# Altium integrated library Holtek Semiconductor 8-Bit OTP MCU.IntLib: 195 symbols (part 5 of 7)
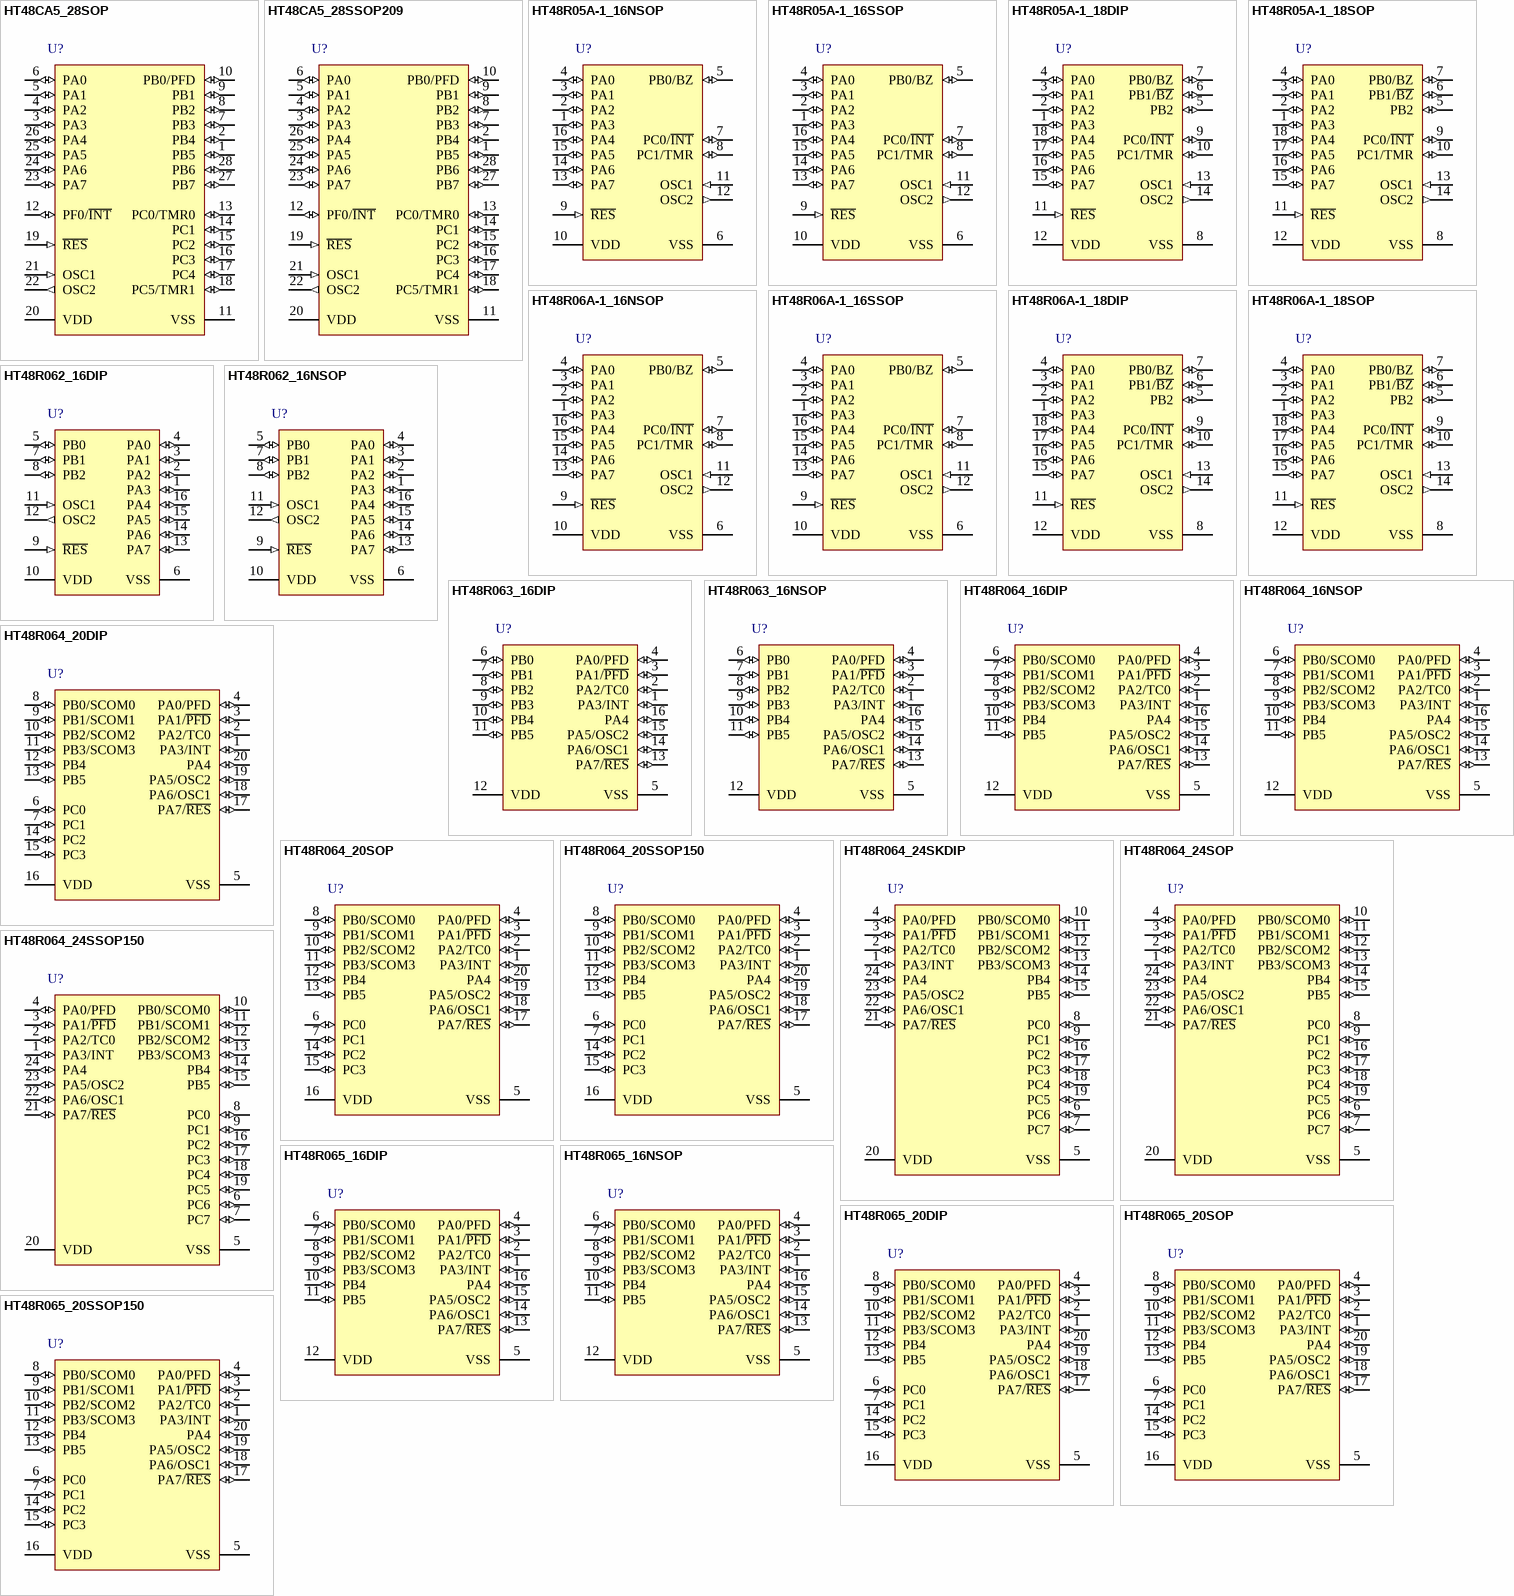
[diagram p16: symbols HT48CA5_28SOP to HT48R065_20SSOP150]

## HT48R064_16DIP
designator U?
General Purpose MCU, Enhanced I/O Type MCU, 2.2V-5.5V, 32kHz-12MHz, 1Kx14 Program Memory, 64x8 Data Memory, 22 I/O, 1 x 8-bit Timer, 16-pin DIP; I/O: 22; DatasheetVersion: rev1.3, Jun-2010; PackageVersion: 25/05/2010; PackageReference: 16DIP; PackageDescription: 16-Pin, Dual In-line Package, 300mil Width, Pitch 2.54 mm, Full Lead; Series: Enhanced I/O Type MCU; Operating Voltage: 2.2V-5.5V; Program Memory: 1Kx14; Data Memory: 64x8; Code_JEDEC: MS-001D; ComponentLink1Description: Manufacturer URL; ComponentLink1URL: http://www.holtek.com/; ComponentLink2Description: Datasheet; ComponentLink2URL: http://www.holtek.com.cn/pdf/uc/sim48R06xv130.pdf; ComponentLink3Description: Package Specification; ComponentLink3URL: http://www.holtek.com/english/literature/package.pdf
footprint 16DIP (DIP, 16-Leads, Row Spacing 7.62mm, Pitch 2.54mm, Body 21.1x6.6mm)
pins: 1 PA3/INT (io), 2 PA2/TC0 (io), 3 PA1/~{PFD} (io), 4 PA0/PFD (io), 5 VSS (power), 6 PB0/SCOM0 (io), 7 PB1/SCOM1 (io), 8 PB2/SCOM2 (io), 9 PB3/SCOM3 (io), 10 PB4 (io), 11 PB5 (io), 12 VDD (power), 13 PA7/~{RES} (io), 14 PA6/OSC1 (io), 15 PA5/OSC2 (io), 16 PA4 (io)

## HT48R064_16NSOP
designator U?
General Purpose MCU, Enhanced I/O Type MCU, 2.2V-5.5V, 32kHz-12MHz, 1Kx14 Program Memory, 64x8 Data Memory, 22 I/O, 1 x 8-bit Timer, 16-pin NSOP; I/O: 22; DatasheetVersion: rev1.3, Jun-2010; PackageVersion: 25/05/2010; PackageReference: 16NSOP; PackageDescription: 16-Pin Narrow Small Outline Package, 150mil Wide, 1.27 mm Pitch; Series: Enhanced I/O Type MCU; Operating Voltage: 2.2V-5.5V; Program Memory: 1Kx14; Data Memory: 64x8; ComponentLink1Description: Manufacturer URL; ComponentLink1URL: http://www.holtek.com/; ComponentLink2Description: Datasheet; ComponentLink2URL: http://www.holtek.com.cn/pdf/uc/sim48R06xv130.pdf; ComponentLink3Description: Package Specification; ComponentLink3URL: http://www.holtek.com/english/literature/package.pdf
footprint 16NSOP_N (SOIC, 16-Leads, Body 10.01x3.9mm, Pitch 1.27mm, IPC Medium Density)
footprint 16NSOP_L (SOIC, 16-Leads, Body 10.01x3.9mm, Pitch 1.27mm, IPC High Density)
footprint 16NSOP_M (SOIC, 16-Leads, Body 10.01x3.9mm, Pitch 1.27mm, IPC Low Density)
pins: 1 PA3/INT (io), 2 PA2/TC0 (io), 3 PA1/~{PFD} (io), 4 PA0/PFD (io), 5 VSS (power), 6 PB0/SCOM0 (io), 7 PB1/SCOM1 (io), 8 PB2/SCOM2 (io), 9 PB3/SCOM3 (io), 10 PB4 (io), 11 PB5 (io), 12 VDD (power), 13 PA7/~{RES} (io), 14 PA6/OSC1 (io), 15 PA5/OSC2 (io), 16 PA4 (io)

## HT48R064_20DIP
designator U?
General Purpose MCU, Enhanced I/O Type MCU, 2.2V-5.5V, 32kHz-12MHz, 1Kx14 Program Memory, 64x8 Data Memory, 22 I/O, 1 x 8-bit Timer, 20-pin DIP; I/O: 22; DatasheetVersion: rev1.3, Jun-2010; PackageVersion: 25/05/2010; PackageReference: 20DIP; PackageDescription: 20-Pin, Dual In-line Package, 300mil Width, Pitch 2.54 mm, Full Lead; Series: Enhanced I/O Type MCU; Operating Voltage: 2.2V-5.5V; Program Memory: 1Kx14; Data Memory: 64x8; Code_JEDEC: MO-095A; ComponentLink1Description: Manufacturer URL; ComponentLink1URL: http://www.holtek.com/; ComponentLink2Description: Datasheet; ComponentLink2URL: http://www.holtek.com.cn/pdf/uc/sim48R06xv130.pdf; ComponentLink3Description: Package Specification; ComponentLink3URL: http://www.holtek.com/english/literature/package.pdf
footprint 20DIP (DIP, 20-Leads, Row Spacing 7.62mm, Pitch 2.54mm, Body 24.5x7.2mm)
pins: 1 PA3/INT (io), 2 PA2/TC0 (io), 3 PA1/~{PFD} (io), 4 PA0/PFD (io), 5 VSS (power), 6 PC0 (io), 7 PC1 (io), 8 PB0/SCOM0 (io), 9 PB1/SCOM1 (io), 10 PB2/SCOM2 (io), 11 PB3/SCOM3 (io), 12 PB4 (io), 13 PB5 (io), 14 PC2 (io), 15 PC3 (io), 16 VDD (power), 17 PA7/~{RES} (io), 18 PA6/OSC1 (io), 19 PA5/OSC2 (io), 20 PA4 (io)

## HT48R064_20SOP
designator U?
General Purpose MCU, Enhanced I/O Type MCU, 2.2V-5.5V, 32kHz-12MHz, 1Kx14 Program Memory, 64x8 Data Memory, 22 I/O, 1 x 8-bit Timer, 20-pin SOP; I/O: 22; DatasheetVersion: rev1.3, Jun-2010; PackageVersion: 25/05/2010; PackageReference: 20SOP; PackageDescription: 20-Pin Small Outline Package, 300mil Wide, 1.27 mm Pitch; Series: Enhanced I/O Type MCU; Operating Voltage: 2.2V-5.5V; Program Memory: 1Kx14; Data Memory: 64x8; Code_JEDEC: MS-013; Code_IPC: SOIC127P1030-20; ComponentLink1Description: Manufacturer URL; ComponentLink1URL: http://www.holtek.com/; ComponentLink2Description: Datasheet; ComponentLink2URL: http://www.holtek.com.cn/pdf/uc/sim48R06xv130.pdf; ComponentLink3Description: Package Specification; ComponentLink3URL: http://www.holtek.com/english/literature/package.pdf
footprint 20SOP_N (SOIC, 20-Leads, Body 12.8x7.1mm, Pitch 1.27mm, IPC Medium Density)
footprint 20SOP_L (SOIC, 20-Leads, Body 12.8x7.1mm, Pitch 1.27mm, IPC High Density)
footprint 20SOP_M (SOIC, 20-Leads, Body 12.8x7.1mm, Pitch 1.27mm, IPC Low Density)
pins: 1 PA3/INT (io), 2 PA2/TC0 (io), 3 PA1/~{PFD} (io), 4 PA0/PFD (io), 5 VSS (power), 6 PC0 (io), 7 PC1 (io), 8 PB0/SCOM0 (io), 9 PB1/SCOM1 (io), 10 PB2/SCOM2 (io), 11 PB3/SCOM3 (io), 12 PB4 (io), 13 PB5 (io), 14 PC2 (io), 15 PC3 (io), 16 VDD (power), 17 PA7/~{RES} (io), 18 PA6/OSC1 (io), 19 PA5/OSC2 (io), 20 PA4 (io)

## HT48R064_20SSOP150
designator U?
General Purpose MCU, Enhanced I/O Type MCU, 2.2V-5.5V, 32kHz-12MHz, 1Kx14 Program Memory, 64x8 Data Memory, 22 I/O, 1 x 8-bit Timer, 20-pin SSOP; I/O: 22; DatasheetVersion: rev1.3, Jun-2010; PackageVersion: 25/05/2010; PackageReference: 20SSOP150; PackageDescription: 20-Pin Shrink Small Outline Package, 150mil Width, 0.64 mm Pitch; Series: Enhanced I/O Type MCU; Operating Voltage: 2.2V-5.5V; Program Memory: 1Kx14; Data Memory: 64x8; Code_IPC: SOP635P600-20; ComponentLink1Description: Manufacturer URL; ComponentLink1URL: http://www.holtek.com/; ComponentLink2Description: Datasheet; ComponentLink2URL: http://www.holtek.com.cn/pdf/uc/sim48R06xv130.pdf; ComponentLink3Description: Package Specification; ComponentLink3URL: http://www.holtek.com/english/literature/package.pdf
footprint 20SSOP150_N (SOP, 20-Leads, Body 8.7x3.9mm, Pitch 0.635mm, IPC Medium Density)
footprint 20SSOP150_L (SOP, 20-Leads, Body 8.7x3.9mm, Pitch 0.635mm, IPC High Density)
footprint 20SSOP150_M (SOP, 20-Leads, Body 8.7x3.9mm, Pitch 0.635mm, IPC Low Density)
pins: 1 PA3/INT (io), 2 PA2/TC0 (io), 3 PA1/~{PFD} (io), 4 PA0/PFD (io), 5 VSS (power), 6 PC0 (io), 7 PC1 (io), 8 PB0/SCOM0 (io), 9 PB1/SCOM1 (io), 10 PB2/SCOM2 (io), 11 PB3/SCOM3 (io), 12 PB4 (io), 13 PB5 (io), 14 PC2 (io), 15 PC3 (io), 16 VDD (power), 17 PA7/~{RES} (io), 18 PA6/OSC1 (io), 19 PA5/OSC2 (io), 20 PA4 (io)

## HT48R064_24SKDIP
designator U?
General Purpose MCU, Enhanced I/O Type MCU, 2.2V-5.5V, 32kHz-12MHz, 1Kx14 Program Memory, 64x8 Data Memory, 22 I/O, 1 x 8-bit Timer, 24-pin SKDIP; I/O: 22; DatasheetVersion: rev1.3, Jun-2010; PackageVersion: 25/05/2010; PackageReference: 24SKDIP; PackageDescription: 24-Pin, Skinny Dual In-line Package, 300mil Width, Pitch 2.54 mm, Full Lead (MS-001D); Series: Enhanced I/O Type MCU; Operating Voltage: 2.2V-5.5V; Program Memory: 1Kx14; Data Memory: 64x8; Code_JEDEC: MS-001; ComponentLink1Description: Manufacturer URL; ComponentLink1URL: http://www.holtek.com/; ComponentLink2Description: Datasheet; ComponentLink2URL: http://www.holtek.com.cn/pdf/uc/sim48R06xv130.pdf; ComponentLink3Description: Package Specification; ComponentLink3URL: http://www.holtek.com/english/literature/package.pdf
footprint 24SKDIP (DIP, 24-Leads, Row Spacing 7.62mm, Pitch 2.54mm, Body 31.9x6.6mm)
pins: 1 PA3/INT (io), 2 PA2/TC0 (io), 3 PA1/~{PFD} (io), 4 PA0/PFD (io), 5 VSS (power), 6 PC6 (io), 7 PC7 (io), 8 PC0 (io), 9 PC1 (io), 10 PB0/SCOM0 (io), 11 PB1/SCOM1 (io), 12 PB2/SCOM2 (io), 13 PB3/SCOM3 (io), 14 PB4 (io), 15 PB5 (io), 16 PC2 (io), 17 PC3 (io), 18 PC4 (io), 19 PC5 (io), 20 VDD (power), 21 PA7/~{RES} (io), 22 PA6/OSC1 (io), 23 PA5/OSC2 (io), 24 PA4 (io)

## HT48R064_24SOP
designator U?
General Purpose MCU, Enhanced I/O Type MCU, 2.2V-5.5V, 32kHz-12MHz, 1Kx14 Program Memory, 64x8 Data Memory, 22 I/O, 1 x 8-bit Timer, 24-pin SOP; I/O: 22; DatasheetVersion: rev1.3, Jun-2010; PackageVersion: 25/05/2010; PackageReference: 24SOP; PackageDescription: 24-Pin Small Outline Package, 300mil Wide, 1.27 mm Pitch; Series: Enhanced I/O Type MCU; Operating Voltage: 2.2V-5.5V; Program Memory: 1Kx14; Data Memory: 64x8; Code_JEDEC: MS-013; ComponentLink1Description: Manufacturer URL; ComponentLink1URL: http://www.holtek.com/; ComponentLink2Description: Datasheet; ComponentLink2URL: http://www.holtek.com.cn/pdf/uc/sim48R06xv130.pdf; ComponentLink3Description: Package Specification; ComponentLink3URL: http://www.holtek.com/english/literature/package.pdf
footprint 24SOP_N (SOIC, 24-Leads, Body 15.4x7.1mm, Pitch 1.27mm, IPC Medium Density)
footprint 24SOP_L (SOIC, 24-Leads, Body 15.4x7.1mm, Pitch 1.27mm, IPC High Density)
footprint 24SOP_M (SOIC, 24-Leads, Body 15.4x7.1mm, Pitch 1.27mm, IPC Low Density)
pins: 1 PA3/INT (io), 2 PA2/TC0 (io), 3 PA1/~{PFD} (io), 4 PA0/PFD (io), 5 VSS (power), 6 PC6 (io), 7 PC7 (io), 8 PC0 (io), 9 PC1 (io), 10 PB0/SCOM0 (io), 11 PB1/SCOM1 (io), 12 PB2/SCOM2 (io), 13 PB3/SCOM3 (io), 14 PB4 (io), 15 PB5 (io), 16 PC2 (io), 17 PC3 (io), 18 PC4 (io), 19 PC5 (io), 20 VDD (power), 21 PA7/~{RES} (io), 22 PA6/OSC1 (io), 23 PA5/OSC2 (io), 24 PA4 (io)

## HT48R064_24SSOP150
designator U?
General Purpose MCU, Enhanced I/O Type MCU, 2.2V-5.5V, 32kHz-12MHz, 1Kx14 Program Memory, 64x8 Data Memory, 22 I/O, 1 x 8-bit Timer, 24-pin SSOP; I/O: 22; DatasheetVersion: rev1.3, Jun-2010; PackageVersion: 25/05/2010; PackageReference: 24SSOP150; PackageDescription: 24-Pin Shrink Small Outline Package, 150mil Width, 0.64 mm Pitch; Series: Enhanced I/O Type MCU; Operating Voltage: 2.2V-5.5V; Program Memory: 1Kx14; Data Memory: 64x8; ComponentLink1Description: Manufacturer URL; ComponentLink1URL: http://www.holtek.com/; ComponentLink2Description: Datasheet; ComponentLink2URL: http://www.holtek.com.cn/pdf/uc/sim48R06xv130.pdf; ComponentLink3Description: Package Specification; ComponentLink3URL: http://www.holtek.com/english/literature/package.pdf
footprint 24SSOP150_N (SOP, 24-Leads, Body 8.7x3.9mm, Pitch 0.635mm, IPC Medium Density)
footprint 24SSOP150_L (SOP, 24-Leads, Body 8.7x3.9mm, Pitch 0.635mm, IPC High Density)
footprint 24SSOP150_M (SOP, 24-Leads, Body 8.7x3.9mm, Pitch 0.635mm, IPC Low Density)
pins: 1 PA3/INT (io), 2 PA2/TC0 (io), 3 PA1/~{PFD} (io), 4 PA0/PFD (io), 5 VSS (power), 6 PC6 (io), 7 PC7 (io), 8 PC0 (io), 9 PC1 (io), 10 PB0/SCOM0 (io), 11 PB1/SCOM1 (io), 12 PB2/SCOM2 (io), 13 PB3/SCOM3 (io), 14 PB4 (io), 15 PB5 (io), 16 PC2 (io), 17 PC3 (io), 18 PC4 (io), 19 PC5 (io), 20 VDD (power), 21 PA7/~{RES} (io), 22 PA6/OSC1 (io), 23 PA5/OSC2 (io), 24 PA4 (io)

## HT48R065_16DIP
designator U?
General Purpose MCU, Enhanced I/O Type MCU, 2.2V-5.5V, 32kHz-12MHz, 2Kx15 Program Memory, 96x8 Data Memory, 26 I/O, 1 x 8-bit Timer, 16-pin DIP; I/O: 26; DatasheetVersion: rev1.3, Jun-2010; PackageVersion: 25/05/2010; PackageReference: 16DIP; PackageDescription: 16-Pin, Dual In-line Package, 300mil Width, Pitch 2.54 mm, Full Lead; Series: Enhanced I/O Type MCU; Operating Voltage: 2.2V-5.5V; Program Memory: 2Kx15; Data Memory: 96x8; Code_JEDEC: MS-001D; ComponentLink1Description: Manufacturer URL; ComponentLink1URL: http://www.holtek.com/; ComponentLink2Description: Datasheet; ComponentLink2URL: http://www.holtek.com.cn/pdf/uc/sim48R06xv130.pdf; ComponentLink3Description: Package Specification; ComponentLink3URL: http://www.holtek.com/english/literature/package.pdf
footprint 16DIP (DIP, 16-Leads, Row Spacing 7.62mm, Pitch 2.54mm, Body 21.1x6.6mm)
pins: 1 PA3/INT (io), 2 PA2/TC0 (io), 3 PA1/~{PFD} (io), 4 PA0/PFD (io), 5 VSS (power), 6 PB0/SCOM0 (io), 7 PB1/SCOM1 (io), 8 PB2/SCOM2 (io), 9 PB3/SCOM3 (io), 10 PB4 (io), 11 PB5 (io), 12 VDD (power), 13 PA7/~{RES} (io), 14 PA6/OSC1 (io), 15 PA5/OSC2 (io), 16 PA4 (io)

## HT48R065_16NSOP
designator U?
General Purpose MCU, Enhanced I/O Type MCU, 2.2V-5.5V, 32kHz-12MHz, 2Kx15 Program Memory, 96x8 Data Memory, 26 I/O, 1 x 8-bit Timer, 16-pin NSOP; I/O: 26; DatasheetVersion: rev1.3, Jun-2010; PackageVersion: 25/05/2010; PackageReference: 16NSOP; PackageDescription: 16-Pin Narrow Small Outline Package, 150mil Wide, 1.27 mm Pitch; Series: Enhanced I/O Type MCU; Operating Voltage: 2.2V-5.5V; Program Memory: 2Kx15; Data Memory: 96x8; ComponentLink1Description: Manufacturer URL; ComponentLink1URL: http://www.holtek.com/; ComponentLink2Description: Datasheet; ComponentLink2URL: http://www.holtek.com.cn/pdf/uc/sim48R06xv130.pdf; ComponentLink3Description: Package Specification; ComponentLink3URL: http://www.holtek.com/english/literature/package.pdf
footprint 16NSOP_N (SOIC, 16-Leads, Body 10.01x3.9mm, Pitch 1.27mm, IPC Medium Density)
footprint 16NSOP_L (SOIC, 16-Leads, Body 10.01x3.9mm, Pitch 1.27mm, IPC High Density)
footprint 16NSOP_M (SOIC, 16-Leads, Body 10.01x3.9mm, Pitch 1.27mm, IPC Low Density)
pins: 1 PA3/INT (io), 2 PA2/TC0 (io), 3 PA1/~{PFD} (io), 4 PA0/PFD (io), 5 VSS (power), 6 PB0/SCOM0 (io), 7 PB1/SCOM1 (io), 8 PB2/SCOM2 (io), 9 PB3/SCOM3 (io), 10 PB4 (io), 11 PB5 (io), 12 VDD (power), 13 PA7/~{RES} (io), 14 PA6/OSC1 (io), 15 PA5/OSC2 (io), 16 PA4 (io)

## HT48R065_20DIP
designator U?
General Purpose MCU, Enhanced I/O Type MCU, 2.2V-5.5V, 32kHz-12MHz, 2Kx15 Program Memory, 96x8 Data Memory, 26 I/O, 1 x 8-bit Timer, 20-pin DIP; I/O: 26; DatasheetVersion: rev1.3, Jun-2010; PackageVersion: 25/05/2010; PackageReference: 20DIP; PackageDescription: 20-Pin, Dual In-line Package, 300mil Width, Pitch 2.54 mm, Full Lead; Series: Enhanced I/O Type MCU; Operating Voltage: 2.2V-5.5V; Program Memory: 2Kx15; Data Memory: 96x8; Code_JEDEC: MO-095A; ComponentLink1Description: Manufacturer URL; ComponentLink1URL: http://www.holtek.com/; ComponentLink2Description: Datasheet; ComponentLink2URL: http://www.holtek.com.cn/pdf/uc/sim48R06xv130.pdf; ComponentLink3Description: Package Specification; ComponentLink3URL: http://www.holtek.com/english/literature/package.pdf
footprint 20DIP (DIP, 20-Leads, Row Spacing 7.62mm, Pitch 2.54mm, Body 24.5x7.2mm)
pins: 1 PA3/INT (io), 2 PA2/TC0 (io), 3 PA1/~{PFD} (io), 4 PA0/PFD (io), 5 VSS (power), 6 PC0 (io), 7 PC1 (io), 8 PB0/SCOM0 (io), 9 PB1/SCOM1 (io), 10 PB2/SCOM2 (io), 11 PB3/SCOM3 (io), 12 PB4 (io), 13 PB5 (io), 14 PC2 (io), 15 PC3 (io), 16 VDD (power), 17 PA7/~{RES} (io), 18 PA6/OSC1 (io), 19 PA5/OSC2 (io), 20 PA4 (io)

## HT48R065_20SOP
designator U?
General Purpose MCU, Enhanced I/O Type MCU, 2.2V-5.5V, 32kHz-12MHz, 2Kx15 Program Memory, 96x8 Data Memory, 26 I/O, 1 x 8-bit Timer, 20-pin SOP; I/O: 26; DatasheetVersion: rev1.3, Jun-2010; PackageVersion: 25/05/2010; PackageReference: 20SOP; PackageDescription: 20-Pin Small Outline Package, 300mil Wide, 1.27 mm Pitch; Series: Enhanced I/O Type MCU; Operating Voltage: 2.2V-5.5V; Program Memory: 2Kx15; Data Memory: 96x8; Code_JEDEC: MS-013; Code_IPC: SOIC127P1030-20; ComponentLink1Description: Manufacturer URL; ComponentLink1URL: http://www.holtek.com/; ComponentLink2Description: Datasheet; ComponentLink2URL: http://www.holtek.com.cn/pdf/uc/sim48R06xv130.pdf; ComponentLink3Description: Package Specification; ComponentLink3URL: http://www.holtek.com/english/literature/package.pdf
footprint 20SOP_N (SOIC, 20-Leads, Body 12.8x7.1mm, Pitch 1.27mm, IPC Medium Density)
footprint 20SOP_L (SOIC, 20-Leads, Body 12.8x7.1mm, Pitch 1.27mm, IPC High Density)
footprint 20SOP_M (SOIC, 20-Leads, Body 12.8x7.1mm, Pitch 1.27mm, IPC Low Density)
pins: 1 PA3/INT (io), 2 PA2/TC0 (io), 3 PA1/~{PFD} (io), 4 PA0/PFD (io), 5 VSS (power), 6 PC0 (io), 7 PC1 (io), 8 PB0/SCOM0 (io), 9 PB1/SCOM1 (io), 10 PB2/SCOM2 (io), 11 PB3/SCOM3 (io), 12 PB4 (io), 13 PB5 (io), 14 PC2 (io), 15 PC3 (io), 16 VDD (power), 17 PA7/~{RES} (io), 18 PA6/OSC1 (io), 19 PA5/OSC2 (io), 20 PA4 (io)

## HT48R065_20SSOP150
designator U?
General Purpose MCU, Enhanced I/O Type MCU, 2.2V-5.5V, 32kHz-12MHz, 2Kx15 Program Memory, 96x8 Data Memory, 26 I/O, 1 x 8-bit Timer, 20-pin SSOP; I/O: 26; DatasheetVersion: rev1.3, Jun-2010; PackageVersion: 25/05/2010; PackageReference: 20SSOP150; PackageDescription: 20-Pin Shrink Small Outline Package, 150mil Width, 0.64 mm Pitch; Series: Enhanced I/O Type MCU; Operating Voltage: 2.2V-5.5V; Program Memory: 2Kx15; Data Memory: 96x8; Code_IPC: SOP635P600-20; ComponentLink1Description: Manufacturer URL; ComponentLink1URL: http://www.holtek.com/; ComponentLink2Description: Datasheet; ComponentLink2URL: http://www.holtek.com.cn/pdf/uc/sim48R06xv130.pdf; ComponentLink3Description: Package Specification; ComponentLink3URL: http://www.holtek.com/english/literature/package.pdf
footprint 20SSOP150_N (SOP, 20-Leads, Body 8.7x3.9mm, Pitch 0.635mm, IPC Medium Density)
footprint 20SSOP150_L (SOP, 20-Leads, Body 8.7x3.9mm, Pitch 0.635mm, IPC High Density)
footprint 20SSOP150_M (SOP, 20-Leads, Body 8.7x3.9mm, Pitch 0.635mm, IPC Low Density)
pins: 1 PA3/INT (io), 2 PA2/TC0 (io), 3 PA1/~{PFD} (io), 4 PA0/PFD (io), 5 VSS (power), 6 PC0 (io), 7 PC1 (io), 8 PB0/SCOM0 (io), 9 PB1/SCOM1 (io), 10 PB2/SCOM2 (io), 11 PB3/SCOM3 (io), 12 PB4 (io), 13 PB5 (io), 14 PC2 (io), 15 PC3 (io), 16 VDD (power), 17 PA7/~{RES} (io), 18 PA6/OSC1 (io), 19 PA5/OSC2 (io), 20 PA4 (io)

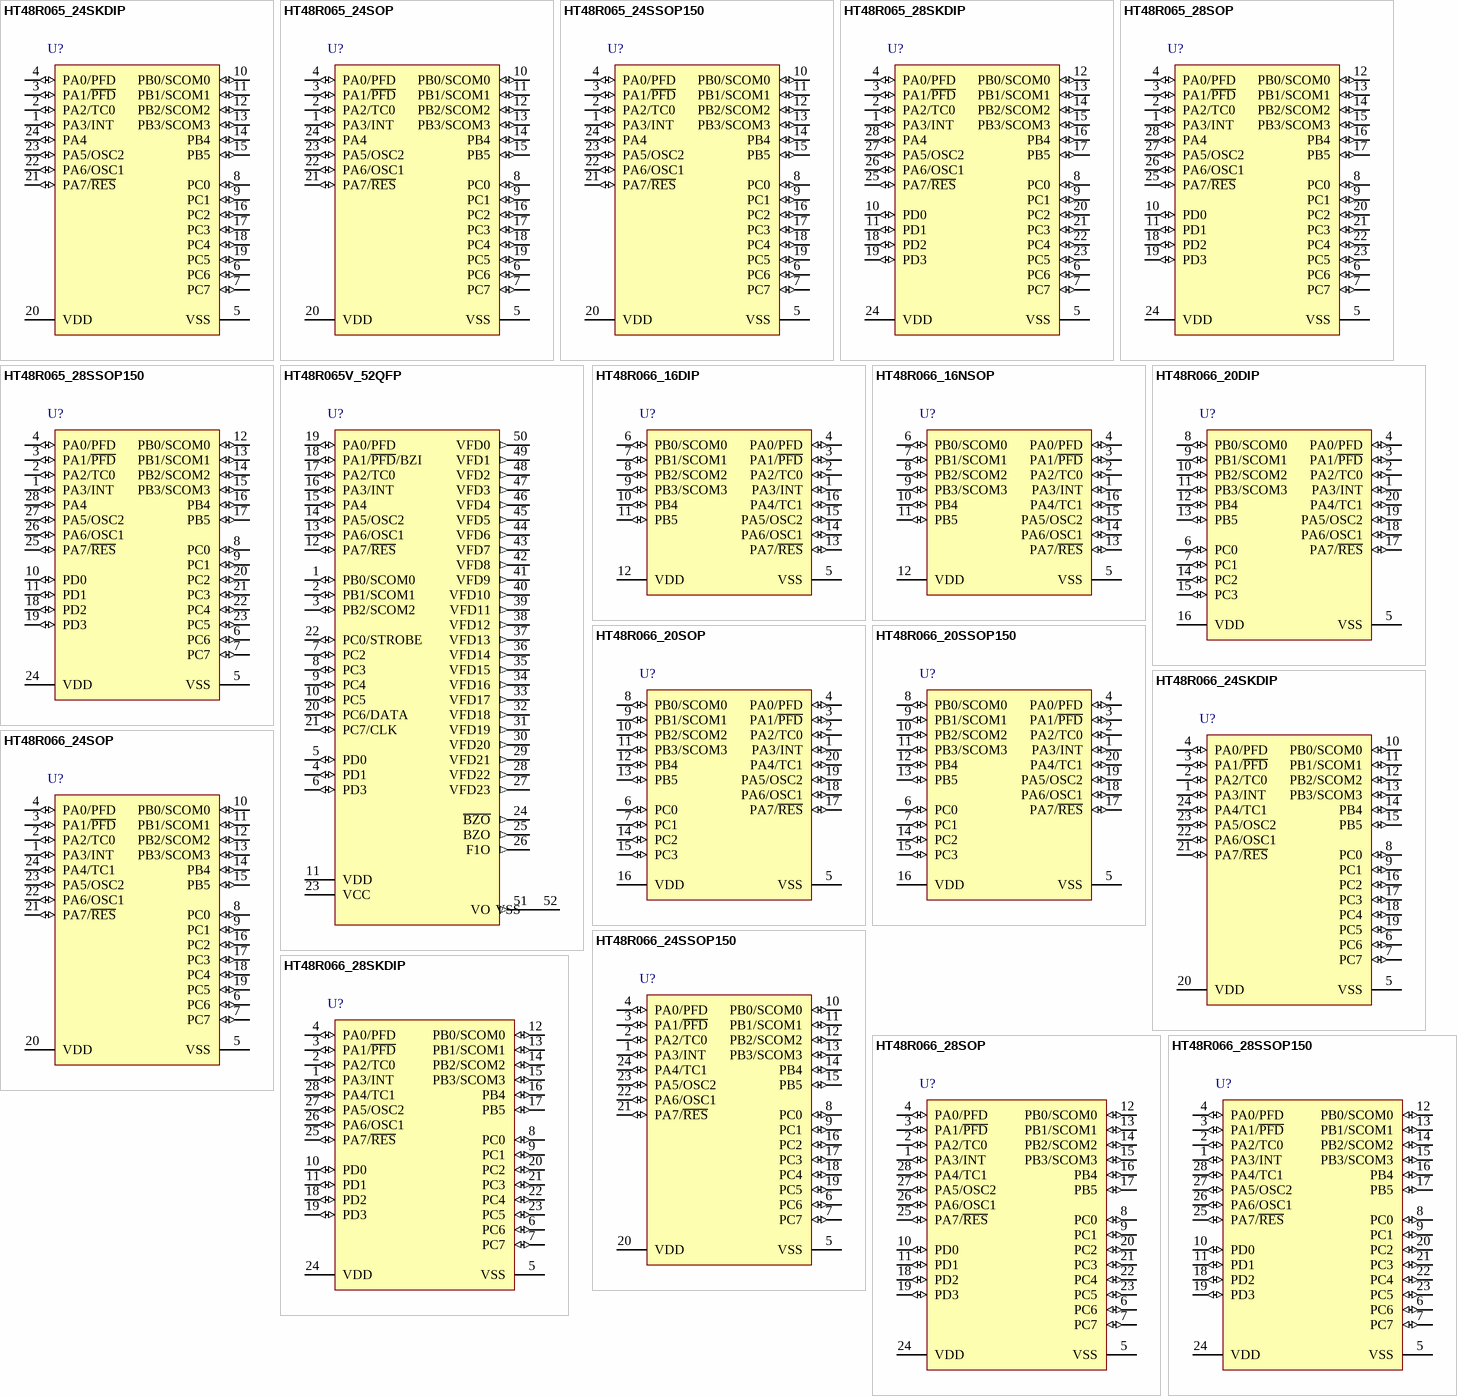
[diagram p9: symbols HT48R065_24SKDIP to HT48R066_28SSOP150]

## HT48R065_24SKDIP
designator U?
General Purpose MCU, Enhanced I/O Type MCU, 2.2V-5.5V, 32kHz-12MHz, 2Kx15 Program Memory, 96x8 Data Memory, 26 I/O, 1 x 8-bit Timer, 24-pin SKDIP; I/O: 26; DatasheetVersion: rev1.3, Jun-2010; PackageVersion: 25/05/2010; PackageReference: 24SKDIP; PackageDescription: 24-Pin, Skinny Dual In-line Package, 300mil Width, Pitch 2.54 mm, Full Lead (MS-001D); Series: Enhanced I/O Type MCU; Operating Voltage: 2.2V-5.5V; Program Memory: 2Kx15; Data Memory: 96x8; Code_JEDEC: MS-001; ComponentLink1Description: Manufacturer URL; ComponentLink1URL: http://www.holtek.com/; ComponentLink2Description: Datasheet; ComponentLink2URL: http://www.holtek.com.cn/pdf/uc/sim48R06xv130.pdf; ComponentLink3Description: Package Specification; ComponentLink3URL: http://www.holtek.com/english/literature/package.pdf
footprint 24SKDIP (DIP, 24-Leads, Row Spacing 7.62mm, Pitch 2.54mm, Body 31.9x6.6mm)
pins: 1 PA3/INT (io), 2 PA2/TC0 (io), 3 PA1/~{PFD} (io), 4 PA0/PFD (io), 5 VSS (power), 6 PC6 (io), 7 PC7 (io), 8 PC0 (io), 9 PC1 (io), 10 PB0/SCOM0 (io), 11 PB1/SCOM1 (io), 12 PB2/SCOM2 (io), 13 PB3/SCOM3 (io), 14 PB4 (io), 15 PB5 (io), 16 PC2 (io), 17 PC3 (io), 18 PC4 (io), 19 PC5 (io), 20 VDD (power), 21 PA7/~{RES} (io), 22 PA6/OSC1 (io), 23 PA5/OSC2 (io), 24 PA4 (io)

## HT48R065_24SOP
designator U?
General Purpose MCU, Enhanced I/O Type MCU, 2.2V-5.5V, 32kHz-12MHz, 2Kx15 Program Memory, 96x8 Data Memory, 26 I/O, 1 x 8-bit Timer, 24-pin SOP; I/O: 26; DatasheetVersion: rev1.3, Jun-2010; PackageVersion: 25/05/2010; PackageReference: 24SOP; PackageDescription: 24-Pin Small Outline Package, 300mil Wide, 1.27 mm Pitch; Series: Enhanced I/O Type MCU; Operating Voltage: 2.2V-5.5V; Program Memory: 2Kx15; Data Memory: 96x8; Code_JEDEC: MS-013; ComponentLink1Description: Manufacturer URL; ComponentLink1URL: http://www.holtek.com/; ComponentLink2Description: Datasheet; ComponentLink2URL: http://www.holtek.com.cn/pdf/uc/sim48R06xv130.pdf; ComponentLink3Description: Package Specification; ComponentLink3URL: http://www.holtek.com/english/literature/package.pdf
footprint 24SOP_N (SOIC, 24-Leads, Body 15.4x7.1mm, Pitch 1.27mm, IPC Medium Density)
footprint 24SOP_L (SOIC, 24-Leads, Body 15.4x7.1mm, Pitch 1.27mm, IPC High Density)
footprint 24SOP_M (SOIC, 24-Leads, Body 15.4x7.1mm, Pitch 1.27mm, IPC Low Density)
pins: 1 PA3/INT (io), 2 PA2/TC0 (io), 3 PA1/~{PFD} (io), 4 PA0/PFD (io), 5 VSS (power), 6 PC6 (io), 7 PC7 (io), 8 PC0 (io), 9 PC1 (io), 10 PB0/SCOM0 (io), 11 PB1/SCOM1 (io), 12 PB2/SCOM2 (io), 13 PB3/SCOM3 (io), 14 PB4 (io), 15 PB5 (io), 16 PC2 (io), 17 PC3 (io), 18 PC4 (io), 19 PC5 (io), 20 VDD (power), 21 PA7/~{RES} (io), 22 PA6/OSC1 (io), 23 PA5/OSC2 (io), 24 PA4 (io)

## HT48R065_24SSOP150
designator U?
General Purpose MCU, Enhanced I/O Type MCU, 2.2V-5.5V, 32kHz-12MHz, 2Kx15 Program Memory, 96x8 Data Memory, 26 I/O, 1 x 8-bit Timer, 24-pin SSOP; I/O: 26; DatasheetVersion: rev1.3, Jun-2010; PackageVersion: 25/05/2010; PackageReference: 24SSOP150; PackageDescription: 24-Pin Shrink Small Outline Package, 150mil Width, 0.64 mm Pitch; Series: Enhanced I/O Type MCU; Operating Voltage: 2.2V-5.5V; Program Memory: 2Kx15; Data Memory: 96x8; ComponentLink1Description: Manufacturer URL; ComponentLink1URL: http://www.holtek.com/; ComponentLink2Description: Datasheet; ComponentLink2URL: http://www.holtek.com.cn/pdf/uc/sim48R06xv130.pdf; ComponentLink3Description: Package Specification; ComponentLink3URL: http://www.holtek.com/english/literature/package.pdf
footprint 24SSOP150_N (SOP, 24-Leads, Body 8.7x3.9mm, Pitch 0.635mm, IPC Medium Density)
footprint 24SSOP150_L (SOP, 24-Leads, Body 8.7x3.9mm, Pitch 0.635mm, IPC High Density)
footprint 24SSOP150_M (SOP, 24-Leads, Body 8.7x3.9mm, Pitch 0.635mm, IPC Low Density)
pins: 1 PA3/INT (io), 2 PA2/TC0 (io), 3 PA1/~{PFD} (io), 4 PA0/PFD (io), 5 VSS (power), 6 PC6 (io), 7 PC7 (io), 8 PC0 (io), 9 PC1 (io), 10 PB0/SCOM0 (io), 11 PB1/SCOM1 (io), 12 PB2/SCOM2 (io), 13 PB3/SCOM3 (io), 14 PB4 (io), 15 PB5 (io), 16 PC2 (io), 17 PC3 (io), 18 PC4 (io), 19 PC5 (io), 20 VDD (power), 21 PA7/~{RES} (io), 22 PA6/OSC1 (io), 23 PA5/OSC2 (io), 24 PA4 (io)

## HT48R065_28SKDIP
designator U?
General Purpose MCU, Enhanced I/O Type MCU, 2.2V-5.5V, 32kHz-12MHz, 2Kx15 Program Memory, 96x8 Data Memory, 26 I/O, 1 x 8-bit Timer, 28-pin SKDIP; I/O: 26; DatasheetVersion: rev1.3, Jun-2010; PackageVersion: 25/05/2010; PackageReference: 28SKDIP; PackageDescription: 28-Pin, Skinny Dual In-line Package, 300mil Width, Pitch 2.54 mm; Series: Enhanced I/O Type MCU; Operating Voltage: 2.2V-5.5V; Program Memory: 2Kx15; Data Memory: 96x8; ComponentLink1Description: Manufacturer URL; ComponentLink1URL: http://www.holtek.com/; ComponentLink2Description: Datasheet; ComponentLink2URL: http://www.holtek.com.cn/pdf/uc/sim48R06xv130.pdf; ComponentLink3Description: Package Specification; ComponentLink3URL: http://www.holtek.com/english/literature/package.pdf
footprint 28SKDIP (DIP, 28-Leads, Row Spacing 7.62mm, Pitch 2.54mm, Body 35.2x7.3mm)
pins: 1 PA3/INT (io), 2 PA2/TC0 (io), 3 PA1/~{PFD} (io), 4 PA0/PFD (io), 5 VSS (power), 6 PC6 (io), 7 PC7 (io), 8 PC0 (io), 9 PC1 (io), 10 PD0 (io), 11 PD1 (io), 12 PB0/SCOM0 (io), 13 PB1/SCOM1 (io), 14 PB2/SCOM2 (io), 15 PB3/SCOM3 (io), 16 PB4 (io), 17 PB5 (io), 18 PD2 (io), 19 PD3 (io), 20 PC2 (io), 21 PC3 (io), 22 PC4 (io), 23 PC5 (io), 24 VDD (power), 25 PA7/~{RES} (io), 26 PA6/OSC1 (io), 27 PA5/OSC2 (io), 28 PA4 (io)

## HT48R065_28SOP
designator U?
General Purpose MCU, Enhanced I/O Type MCU, 2.2V-5.5V, 32kHz-12MHz, 2Kx15 Program Memory, 96x8 Data Memory, 26 I/O, 1 x 8-bit Timer, 28-pin SOP; I/O: 26; DatasheetVersion: rev1.3, Jun-2010; PackageVersion: 25/05/2010; PackageReference: 28SOP; PackageDescription: 28-Pin Small Outline Package, 300mil Wide, 1.27 mm Pitch; Series: Enhanced I/O Type MCU; Operating Voltage: 2.2V-5.5V; Program Memory: 2Kx15; Data Memory: 96x8; Code_JEDEC: MS-013; ComponentLink1Description: Manufacturer URL; ComponentLink1URL: http://www.holtek.com/; ComponentLink2Description: Datasheet; ComponentLink2URL: http://www.holtek.com.cn/pdf/uc/sim48R06xv130.pdf; ComponentLink3Description: Package Specification; ComponentLink3URL: http://www.holtek.com/english/literature/package.pdf
footprint 28SOP_N (SOIC, 28-Leads, Body 17.9x7.1mm, Pitch 1.27mm, IPC Medium Density)
footprint 28SOP_L (SOIC, 28-Leads, Body 17.9x7.1mm, Pitch 1.27mm, IPC High Density)
footprint 28SOP_M (SOIC, 28-Leads, Body 17.9x7.1mm, Pitch 1.27mm, IPC Low Density)
pins: 1 PA3/INT (io), 2 PA2/TC0 (io), 3 PA1/~{PFD} (io), 4 PA0/PFD (io), 5 VSS (power), 6 PC6 (io), 7 PC7 (io), 8 PC0 (io), 9 PC1 (io), 10 PD0 (io), 11 PD1 (io), 12 PB0/SCOM0 (io), 13 PB1/SCOM1 (io), 14 PB2/SCOM2 (io), 15 PB3/SCOM3 (io), 16 PB4 (io), 17 PB5 (io), 18 PD2 (io), 19 PD3 (io), 20 PC2 (io), 21 PC3 (io), 22 PC4 (io), 23 PC5 (io), 24 VDD (power), 25 PA7/~{RES} (io), 26 PA6/OSC1 (io), 27 PA5/OSC2 (io), 28 PA4 (io)

## HT48R065_28SSOP150
designator U?
General Purpose MCU, Enhanced I/O Type MCU, 2.2V-5.5V, 32kHz-12MHz, 2Kx15 Program Memory, 96x8 Data Memory, 26 I/O, 1 x 8-bit Timer, 28-pin SSOP; I/O: 26; DatasheetVersion: rev1.3, Jun-2010; PackageVersion: 25/05/2010; PackageReference: 28SSOP150; PackageDescription: 28-Pin Shrink Small Outline Package, 150mil Width, 0.64 mm Pitch; Series: Enhanced I/O Type MCU; Operating Voltage: 2.2V-5.5V; Program Memory: 2Kx15; Data Memory: 96x8; ComponentLink1Description: Manufacturer URL; ComponentLink1URL: http://www.holtek.com/; ComponentLink2Description: Datasheet; ComponentLink2URL: http://www.holtek.com.cn/pdf/uc/sim48R06xv130.pdf; ComponentLink3Description: Package Specification; ComponentLink3URL: http://www.holtek.com/english/literature/package.pdf
footprint 28SSOP150_N (SOP, 28-Leads, Body 9.9x3.9mm, Pitch 0.635mm, IPC Medium Density)
footprint 28SSOP150_L (SOP, 28-Leads, Body 9.9x3.9mm, Pitch 0.635mm, IPC High Density)
footprint 28SSOP150_M (SOP, 28-Leads, Body 9.9x3.9mm, Pitch 0.635mm, IPC Low Density)
pins: 1 PA3/INT (io), 2 PA2/TC0 (io), 3 PA1/~{PFD} (io), 4 PA0/PFD (io), 5 VSS (power), 6 PC6 (io), 7 PC7 (io), 8 PC0 (io), 9 PC1 (io), 10 PD0 (io), 11 PD1 (io), 12 PB0/SCOM0 (io), 13 PB1/SCOM1 (io), 14 PB2/SCOM2 (io), 15 PB3/SCOM3 (io), 16 PB4 (io), 17 PB5 (io), 18 PD2 (io), 19 PD3 (io), 20 PC2 (io), 21 PC3 (io), 22 PC4 (io), 23 PC5 (io), 24 VDD (power), 25 PA7/~{RES} (io), 26 PA6/OSC1 (io), 27 PA5/OSC2 (io), 28 PA4 (io)

## HT48R065V_52QFP
designator U?
Display MCU, 24V VFD MCU, 12V-24V, 400kHz-12MHz, 2Kx15 Program Memory, 96x8 Data Memory, 17 I/O, 1 x 8-bit Timer, 52-pin QFP; I/O: 17; DatasheetVersion: rev1.0, Oct-2009; PackageVersion: 25/05/2010; PackageReference: 52QFP; PackageDescription: 52-Pin Quad Flat Pack, 14 x 14 mm Body, 1 mm Pitch; Series: 24V VFD MCU; Operating Voltage: 12V-24V; Program Memory: 2Kx15; Data Memory: 96x8; ComponentLink1Description: Manufacturer URL; ComponentLink1URL: http://www.holtek.com/; ComponentLink2Description: Datasheet; ComponentLink2URL: http://www.holtek.com.cn/pdf/uc/sim48r065vv100.pdf; ComponentLink3Description: Package Specification; ComponentLink3URL: http://www.holtek.com/english/literature/package.pdf
footprint 52QFP_N (QFP, 52-Leads, Body 14x14mm, Pitch 1mm, IPC Medium Density)
footprint 52QFP_L (QFP, 52-Leads, Body 14x14mm, Pitch 1mm, IPC High Density)
footprint 52QFP_M (QFP, 52-Leads, Body 14x14mm, Pitch 1mm, IPC Low Density)
pins: 1 PB0/SCOM0 (io), 2 PB1/SCOM1 (io), 3 PB2/SCOM2 (io), 4 PD1 (io), 5 PD0 (io), 6 PD3 (io), 7 PC2 (io), 8 PC3 (io), 9 PC4 (io), 10 PC5 (io), 11 VDD (power), 12 PA7/~{RES} (io), 13 PA6/OSC1 (io), 14 PA5/OSC2 (io), 15 PA4 (io), 16 PA3/INT (io), 17 PA2/TC0 (io), 18 PA1/~{PFD}/BZI (io), 19 PA0/PFD (io), 20 PC6/DATA (io), 21 PC7/CLK (io), 22 PC0/STROBE (io), 23 VCC (power), 24 ~{BZO} (out), 25 BZO (out), 26 F1O (out), 27 VFD23 (out), 28 VFD22 (out), 29 VFD21 (out), 30 VFD20 (out), 31 VFD19 (out), 32 VFD18 (out), 33 VFD17 (out), 34 VFD16 (out), 35 VFD15 (out), 36 VFD14 (out), 37 VFD13 (out), 38 VFD12 (out), 39 VFD11 (out), 40 VFD10 (out), 41 VFD9 (out), 42 VFD8 (out), 43 VFD7 (out), 44 VFD6 (out), 45 VFD5 (out), 46 VFD4 (out), 47 VFD3 (out), 48 VFD2 (out), 49 VFD1 (out), 50 VFD0 (out), 51 VO (out), 52 VSS (power)

## HT48R066_16DIP
designator U?
General Purpose MCU, Enhanced I/O Type MCU, 2.2V-5.5V, 32kHz-12MHz, 4Kx15 Program Memory, 128x8 Data Memory, 26 I/O, 2 x 8-bit Timer, 16-pin DIP; I/O: 26; DatasheetVersion: rev1.3, Jun-2010; PackageVersion: 25/05/2010; PackageReference: 16DIP; PackageDescription: 16-Pin, Dual In-line Package, 300mil Width, Pitch 2.54 mm, Full Lead; Series: Enhanced I/O Type MCU; Operating Voltage: 2.2V-5.5V; Program Memory: 4Kx15; Data Memory: 128x8; Code_JEDEC: MS-001D; ComponentLink1Description: Manufacturer URL; ComponentLink1URL: http://www.holtek.com/; ComponentLink2Description: Datasheet; ComponentLink2URL: http://www.holtek.com.cn/pdf/uc/sim48R06xv130.pdf; ComponentLink3Description: Package Specification; ComponentLink3URL: http://www.holtek.com/english/literature/package.pdf
footprint 16DIP (DIP, 16-Leads, Row Spacing 7.62mm, Pitch 2.54mm, Body 21.1x6.6mm)
pins: 1 PA3/INT (io), 2 PA2/TC0 (io), 3 PA1/~{PFD} (io), 4 PA0/PFD (io), 5 VSS (power), 6 PB0/SCOM0 (io), 7 PB1/SCOM1 (io), 8 PB2/SCOM2 (io), 9 PB3/SCOM3 (io), 10 PB4 (io), 11 PB5 (io), 12 VDD (power), 13 PA7/~{RES} (io), 14 PA6/OSC1 (io), 15 PA5/OSC2 (io), 16 PA4/TC1 (io)

## HT48R066_16NSOP
designator U?
General Purpose MCU, Enhanced I/O Type MCU, 2.2V-5.5V, 32kHz-12MHz, 4Kx15 Program Memory, 128x8 Data Memory, 26 I/O, 2 x 8-bit Timer, 16-pin NSOP; I/O: 26; DatasheetVersion: rev1.3, Jun-2010; PackageVersion: 25/05/2010; PackageReference: 16NSOP; PackageDescription: 16-Pin Narrow Small Outline Package, 150mil Wide, 1.27 mm Pitch; Series: Enhanced I/O Type MCU; Operating Voltage: 2.2V-5.5V; Program Memory: 4Kx15; Data Memory: 128x8; ComponentLink1Description: Manufacturer URL; ComponentLink1URL: http://www.holtek.com/; ComponentLink2Description: Datasheet; ComponentLink2URL: http://www.holtek.com.cn/pdf/uc/sim48R06xv130.pdf; ComponentLink3Description: Package Specification; ComponentLink3URL: http://www.holtek.com/english/literature/package.pdf
footprint 16NSOP_N (SOIC, 16-Leads, Body 10.01x3.9mm, Pitch 1.27mm, IPC Medium Density)
footprint 16NSOP_L (SOIC, 16-Leads, Body 10.01x3.9mm, Pitch 1.27mm, IPC High Density)
footprint 16NSOP_M (SOIC, 16-Leads, Body 10.01x3.9mm, Pitch 1.27mm, IPC Low Density)
pins: 1 PA3/INT (io), 2 PA2/TC0 (io), 3 PA1/~{PFD} (io), 4 PA0/PFD (io), 5 VSS (power), 6 PB0/SCOM0 (io), 7 PB1/SCOM1 (io), 8 PB2/SCOM2 (io), 9 PB3/SCOM3 (io), 10 PB4 (io), 11 PB5 (io), 12 VDD (power), 13 PA7/~{RES} (io), 14 PA6/OSC1 (io), 15 PA5/OSC2 (io), 16 PA4/TC1 (io)

## HT48R066_20DIP
designator U?
General Purpose MCU, Enhanced I/O Type MCU, 2.2V-5.5V, 32kHz-12MHz, 4Kx15 Program Memory, 128x8 Data Memory, 26 I/O, 2 x 8-bit Timer, 20-pin DIP; I/O: 26; DatasheetVersion: rev1.3, Jun-2010; PackageVersion: 25/05/2010; PackageReference: 20DIP; PackageDescription: 20-Pin, Dual In-line Package, 300mil Width, Pitch 2.54 mm, Full Lead; Series: Enhanced I/O Type MCU; Operating Voltage: 2.2V-5.5V; Program Memory: 4Kx15; Data Memory: 128x8; Code_JEDEC: MO-095A; ComponentLink1Description: Manufacturer URL; ComponentLink1URL: http://www.holtek.com/; ComponentLink2Description: Datasheet; ComponentLink2URL: http://www.holtek.com.cn/pdf/uc/sim48R06xv130.pdf; ComponentLink3Description: Package Specification; ComponentLink3URL: http://www.holtek.com/english/literature/package.pdf
footprint 20DIP (DIP, 20-Leads, Row Spacing 7.62mm, Pitch 2.54mm, Body 24.5x7.2mm)
pins: 1 PA3/INT (io), 2 PA2/TC0 (io), 3 PA1/~{PFD} (io), 4 PA0/PFD (io), 5 VSS (power), 6 PC0 (io), 7 PC1 (io), 8 PB0/SCOM0 (io), 9 PB1/SCOM1 (io), 10 PB2/SCOM2 (io), 11 PB3/SCOM3 (io), 12 PB4 (io), 13 PB5 (io), 14 PC2 (io), 15 PC3 (io), 16 VDD (power), 17 PA7/~{RES} (io), 18 PA6/OSC1 (io), 19 PA5/OSC2 (io), 20 PA4/TC1 (io)

## HT48R066_20SOP
designator U?
General Purpose MCU, Enhanced I/O Type MCU, 2.2V-5.5V, 32kHz-12MHz, 4Kx15 Program Memory, 128x8 Data Memory, 26 I/O, 2 x 8-bit Timer, 20-pin SOP; I/O: 26; DatasheetVersion: rev1.3, Jun-2010; PackageVersion: 25/05/2010; PackageReference: 20SOP; PackageDescription: 20-Pin Small Outline Package, 300mil Wide, 1.27 mm Pitch; Series: Enhanced I/O Type MCU; Operating Voltage: 2.2V-5.5V; Program Memory: 4Kx15; Data Memory: 128x8; Code_JEDEC: MS-013; Code_IPC: SOIC127P1030-20; ComponentLink1Description: Manufacturer URL; ComponentLink1URL: http://www.holtek.com/; ComponentLink2Description: Datasheet; ComponentLink2URL: http://www.holtek.com.cn/pdf/uc/sim48R06xv130.pdf; ComponentLink3Description: Package Specification; ComponentLink3URL: http://www.holtek.com/english/literature/package.pdf
footprint 20SOP_N (SOIC, 20-Leads, Body 12.8x7.1mm, Pitch 1.27mm, IPC Medium Density)
footprint 20SOP_L (SOIC, 20-Leads, Body 12.8x7.1mm, Pitch 1.27mm, IPC High Density)
footprint 20SOP_M (SOIC, 20-Leads, Body 12.8x7.1mm, Pitch 1.27mm, IPC Low Density)
pins: 1 PA3/INT (io), 2 PA2/TC0 (io), 3 PA1/~{PFD} (io), 4 PA0/PFD (io), 5 VSS (power), 6 PC0 (io), 7 PC1 (io), 8 PB0/SCOM0 (io), 9 PB1/SCOM1 (io), 10 PB2/SCOM2 (io), 11 PB3/SCOM3 (io), 12 PB4 (io), 13 PB5 (io), 14 PC2 (io), 15 PC3 (io), 16 VDD (power), 17 PA7/~{RES} (io), 18 PA6/OSC1 (io), 19 PA5/OSC2 (io), 20 PA4/TC1 (io)

## HT48R066_20SSOP150
designator U?
General Purpose MCU, Enhanced I/O Type MCU, 2.2V-5.5V, 32kHz-12MHz, 4Kx15 Program Memory, 128x8 Data Memory, 26 I/O, 2 x 8-bit Timer, 20-pin SSOP; I/O: 26; DatasheetVersion: rev1.3, Jun-2010; PackageVersion: 25/05/2010; PackageReference: 20SSOP150; PackageDescription: 20-Pin Shrink Small Outline Package, 150mil Width, 0.64 mm Pitch; Series: Enhanced I/O Type MCU; Operating Voltage: 2.2V-5.5V; Program Memory: 4Kx15; Data Memory: 128x8; Code_IPC: SOP635P600-20; ComponentLink1Description: Manufacturer URL; ComponentLink1URL: http://www.holtek.com/; ComponentLink2Description: Datasheet; ComponentLink2URL: http://www.holtek.com.cn/pdf/uc/sim48R06xv130.pdf; ComponentLink3Description: Package Specification; ComponentLink3URL: http://www.holtek.com/english/literature/package.pdf
footprint 20SSOP150_N (SOP, 20-Leads, Body 8.7x3.9mm, Pitch 0.635mm, IPC Medium Density)
footprint 20SSOP150_L (SOP, 20-Leads, Body 8.7x3.9mm, Pitch 0.635mm, IPC High Density)
footprint 20SSOP150_M (SOP, 20-Leads, Body 8.7x3.9mm, Pitch 0.635mm, IPC Low Density)
pins: 1 PA3/INT (io), 2 PA2/TC0 (io), 3 PA1/~{PFD} (io), 4 PA0/PFD (io), 5 VSS (power), 6 PC0 (io), 7 PC1 (io), 8 PB0/SCOM0 (io), 9 PB1/SCOM1 (io), 10 PB2/SCOM2 (io), 11 PB3/SCOM3 (io), 12 PB4 (io), 13 PB5 (io), 14 PC2 (io), 15 PC3 (io), 16 VDD (power), 17 PA7/~{RES} (io), 18 PA6/OSC1 (io), 19 PA5/OSC2 (io), 20 PA4/TC1 (io)

## HT48R066_24SKDIP
designator U?
General Purpose MCU, Enhanced I/O Type MCU, 2.2V-5.5V, 32kHz-12MHz, 4Kx15 Program Memory, 128x8 Data Memory, 26 I/O, 2 x 8-bit Timer, 24-pin SKDIP; I/O: 26; DatasheetVersion: rev1.3, Jun-2010; PackageVersion: 25/05/2010; PackageReference: 24SKDIP; PackageDescription: 24-Pin, Skinny Dual In-line Package, 300mil Width, Pitch 2.54 mm, Full Lead (MS-001D); Series: Enhanced I/O Type MCU; Operating Voltage: 2.2V-5.5V; Program Memory: 4Kx15; Data Memory: 128x8; Code_JEDEC: MS-001; ComponentLink1Description: Manufacturer URL; ComponentLink1URL: http://www.holtek.com/; ComponentLink2Description: Datasheet; ComponentLink2URL: http://www.holtek.com.cn/pdf/uc/sim48R06xv130.pdf; ComponentLink3Description: Package Specification; ComponentLink3URL: http://www.holtek.com/english/literature/package.pdf
footprint 24SKDIP (DIP, 24-Leads, Row Spacing 7.62mm, Pitch 2.54mm, Body 31.9x6.6mm)
pins: 1 PA3/INT (io), 2 PA2/TC0 (io), 3 PA1/~{PFD} (io), 4 PA0/PFD (io), 5 VSS (power), 6 PC6 (io), 7 PC7 (io), 8 PC0 (io), 9 PC1 (io), 10 PB0/SCOM0 (io), 11 PB1/SCOM1 (io), 12 PB2/SCOM2 (io), 13 PB3/SCOM3 (io), 14 PB4 (io), 15 PB5 (io), 16 PC2 (io), 17 PC3 (io), 18 PC4 (io), 19 PC5 (io), 20 VDD (power), 21 PA7/~{RES} (io), 22 PA6/OSC1 (io), 23 PA5/OSC2 (io), 24 PA4/TC1 (io)

## HT48R066_24SOP
designator U?
General Purpose MCU, Enhanced I/O Type MCU, 2.2V-5.5V, 32kHz-12MHz, 4Kx15 Program Memory, 128x8 Data Memory, 26 I/O, 2 x 8-bit Timer, 24-pin SOP; I/O: 26; DatasheetVersion: rev1.3, Jun-2010; PackageVersion: 25/05/2010; PackageReference: 24SOP; PackageDescription: 24-Pin Small Outline Package, 300mil Wide, 1.27 mm Pitch; Series: Enhanced I/O Type MCU; Operating Voltage: 2.2V-5.5V; Program Memory: 4Kx15; Data Memory: 128x8; Code_JEDEC: MS-013; ComponentLink1Description: Manufacturer URL; ComponentLink1URL: http://www.holtek.com/; ComponentLink2Description: Datasheet; ComponentLink2URL: http://www.holtek.com.cn/pdf/uc/sim48R06xv130.pdf; ComponentLink3Description: Package Specification; ComponentLink3URL: http://www.holtek.com/english/literature/package.pdf
footprint 24SOP_N (SOIC, 24-Leads, Body 15.4x7.1mm, Pitch 1.27mm, IPC Medium Density)
footprint 24SOP_L (SOIC, 24-Leads, Body 15.4x7.1mm, Pitch 1.27mm, IPC High Density)
footprint 24SOP_M (SOIC, 24-Leads, Body 15.4x7.1mm, Pitch 1.27mm, IPC Low Density)
pins: 1 PA3/INT (io), 2 PA2/TC0 (io), 3 PA1/~{PFD} (io), 4 PA0/PFD (io), 5 VSS (power), 6 PC6 (io), 7 PC7 (io), 8 PC0 (io), 9 PC1 (io), 10 PB0/SCOM0 (io), 11 PB1/SCOM1 (io), 12 PB2/SCOM2 (io), 13 PB3/SCOM3 (io), 14 PB4 (io), 15 PB5 (io), 16 PC2 (io), 17 PC3 (io), 18 PC4 (io), 19 PC5 (io), 20 VDD (power), 21 PA7/~{RES} (io), 22 PA6/OSC1 (io), 23 PA5/OSC2 (io), 24 PA4/TC1 (io)

## HT48R066_24SSOP150
designator U?
General Purpose MCU, Enhanced I/O Type MCU, 2.2V-5.5V, 32kHz-12MHz, 4Kx15 Program Memory, 128x8 Data Memory, 26 I/O, 2 x 8-bit Timer, 24-pin SSOP; I/O: 26; DatasheetVersion: rev1.3, Jun-2010; PackageVersion: 25/05/2010; PackageReference: 24SSOP150; PackageDescription: 24-Pin Shrink Small Outline Package, 150mil Width, 0.64 mm Pitch; Series: Enhanced I/O Type MCU; Operating Voltage: 2.2V-5.5V; Program Memory: 4Kx15; Data Memory: 128x8; ComponentLink1Description: Manufacturer URL; ComponentLink1URL: http://www.holtek.com/; ComponentLink2Description: Datasheet; ComponentLink2URL: http://www.holtek.com.cn/pdf/uc/sim48R06xv130.pdf; ComponentLink3Description: Package Specification; ComponentLink3URL: http://www.holtek.com/english/literature/package.pdf
footprint 24SSOP150_N (SOP, 24-Leads, Body 8.7x3.9mm, Pitch 0.635mm, IPC Medium Density)
footprint 24SSOP150_L (SOP, 24-Leads, Body 8.7x3.9mm, Pitch 0.635mm, IPC High Density)
footprint 24SSOP150_M (SOP, 24-Leads, Body 8.7x3.9mm, Pitch 0.635mm, IPC Low Density)
pins: 1 PA3/INT (io), 2 PA2/TC0 (io), 3 PA1/~{PFD} (io), 4 PA0/PFD (io), 5 VSS (power), 6 PC6 (io), 7 PC7 (io), 8 PC0 (io), 9 PC1 (io), 10 PB0/SCOM0 (io), 11 PB1/SCOM1 (io), 12 PB2/SCOM2 (io), 13 PB3/SCOM3 (io), 14 PB4 (io), 15 PB5 (io), 16 PC2 (io), 17 PC3 (io), 18 PC4 (io), 19 PC5 (io), 20 VDD (power), 21 PA7/~{RES} (io), 22 PA6/OSC1 (io), 23 PA5/OSC2 (io), 24 PA4/TC1 (io)

## HT48R066_28SKDIP
designator U?
General Purpose MCU, Enhanced I/O Type MCU, 2.2V-5.5V, 32kHz-12MHz, 4Kx15 Program Memory, 128x8 Data Memory, 26 I/O, 2 x 8-bit Timer, 28-pin SKDIP; I/O: 26; DatasheetVersion: rev1.3, Jun-2010; PackageVersion: 25/05/2010; PackageReference: 28SKDIP; PackageDescription: 28-Pin, Skinny Dual In-line Package, 300mil Width, Pitch 2.54 mm; Series: Enhanced I/O Type MCU; Operating Voltage: 2.2V-5.5V; Program Memory: 4Kx15; Data Memory: 128x8; ComponentLink1Description: Manufacturer URL; ComponentLink1URL: http://www.holtek.com/; ComponentLink2Description: Datasheet; ComponentLink2URL: http://www.holtek.com.cn/pdf/uc/sim48R06xv130.pdf; ComponentLink3Description: Package Specification; ComponentLink3URL: http://www.holtek.com/english/literature/package.pdf
footprint 28SKDIP (DIP, 28-Leads, Row Spacing 7.62mm, Pitch 2.54mm, Body 35.2x7.3mm)
pins: 1 PA3/INT (io), 2 PA2/TC0 (io), 3 PA1/~{PFD} (io), 4 PA0/PFD (io), 5 VSS (power), 6 PC6 (io), 7 PC7 (io), 8 PC0 (io), 9 PC1 (io), 10 PD0 (io), 11 PD1 (io), 12 PB0/SCOM0 (io), 13 PB1/SCOM1 (io), 14 PB2/SCOM2 (io), 15 PB3/SCOM3 (io), 16 PB4 (io), 17 PB5 (io), 18 PD2 (io), 19 PD3 (io), 20 PC2 (io), 21 PC3 (io), 22 PC4 (io), 23 PC5 (io), 24 VDD (power), 25 PA7/~{RES} (io), 26 PA6/OSC1 (io), 27 PA5/OSC2 (io), 28 PA4/TC1 (io)

## HT48R066_28SOP
designator U?
General Purpose MCU, Enhanced I/O Type MCU, 2.2V-5.5V, 32kHz-12MHz, 4Kx15 Program Memory, 128x8 Data Memory, 26 I/O, 2 x 8-bit Timer, 28-pin SOP; I/O: 26; DatasheetVersion: rev1.3, Jun-2010; PackageVersion: 25/05/2010; PackageReference: 28SOP; PackageDescription: 28-Pin Small Outline Package, 300mil Wide, 1.27 mm Pitch; Series: Enhanced I/O Type MCU; Operating Voltage: 2.2V-5.5V; Program Memory: 4Kx15; Data Memory: 128x8; Code_JEDEC: MS-013; ComponentLink1Description: Manufacturer URL; ComponentLink1URL: http://www.holtek.com/; ComponentLink2Description: Datasheet; ComponentLink2URL: http://www.holtek.com.cn/pdf/uc/sim48R06xv130.pdf; ComponentLink3Description: Package Specification; ComponentLink3URL: http://www.holtek.com/english/literature/package.pdf
footprint 28SOP_N (SOIC, 28-Leads, Body 17.9x7.1mm, Pitch 1.27mm, IPC Medium Density)
footprint 28SOP_L (SOIC, 28-Leads, Body 17.9x7.1mm, Pitch 1.27mm, IPC High Density)
footprint 28SOP_M (SOIC, 28-Leads, Body 17.9x7.1mm, Pitch 1.27mm, IPC Low Density)
pins: 1 PA3/INT (io), 2 PA2/TC0 (io), 3 PA1/~{PFD} (io), 4 PA0/PFD (io), 5 VSS (power), 6 PC6 (io), 7 PC7 (io), 8 PC0 (io), 9 PC1 (io), 10 PD0 (io), 11 PD1 (io), 12 PB0/SCOM0 (io), 13 PB1/SCOM1 (io), 14 PB2/SCOM2 (io), 15 PB3/SCOM3 (io), 16 PB4 (io), 17 PB5 (io), 18 PD2 (io), 19 PD3 (io), 20 PC2 (io), 21 PC3 (io), 22 PC4 (io), 23 PC5 (io), 24 VDD (power), 25 PA7/~{RES} (io), 26 PA6/OSC1 (io), 27 PA5/OSC2 (io), 28 PA4/TC1 (io)

## HT48R066_28SSOP150
designator U?
General Purpose MCU, Enhanced I/O Type MCU, 2.2V-5.5V, 32kHz-12MHz, 4Kx15 Program Memory, 128x8 Data Memory, 26 I/O, 2 x 8-bit Timer, 28-pin SSOP; I/O: 26; DatasheetVersion: rev1.3, Jun-2010; PackageVersion: 25/05/2010; PackageReference: 28SSOP150; PackageDescription: 28-Pin Shrink Small Outline Package, 150mil Width, 0.64 mm Pitch; Series: Enhanced I/O Type MCU; Operating Voltage: 2.2V-5.5V; Program Memory: 4Kx15; Data Memory: 128x8; ComponentLink1Description: Manufacturer URL; ComponentLink1URL: http://www.holtek.com/; ComponentLink2Description: Datasheet; ComponentLink2URL: http://www.holtek.com.cn/pdf/uc/sim48R06xv130.pdf; ComponentLink3Description: Package Specification; ComponentLink3URL: http://www.holtek.com/english/literature/package.pdf
footprint 28SSOP150_N (SOP, 28-Leads, Body 9.9x3.9mm, Pitch 0.635mm, IPC Medium Density)
footprint 28SSOP150_L (SOP, 28-Leads, Body 9.9x3.9mm, Pitch 0.635mm, IPC High Density)
footprint 28SSOP150_M (SOP, 28-Leads, Body 9.9x3.9mm, Pitch 0.635mm, IPC Low Density)
pins: 1 PA3/INT (io), 2 PA2/TC0 (io), 3 PA1/~{PFD} (io), 4 PA0/PFD (io), 5 VSS (power), 6 PC6 (io), 7 PC7 (io), 8 PC0 (io), 9 PC1 (io), 10 PD0 (io), 11 PD1 (io), 12 PB0/SCOM0 (io), 13 PB1/SCOM1 (io), 14 PB2/SCOM2 (io), 15 PB3/SCOM3 (io), 16 PB4 (io), 17 PB5 (io), 18 PD2 (io), 19 PD3 (io), 20 PC2 (io), 21 PC3 (io), 22 PC4 (io), 23 PC5 (io), 24 VDD (power), 25 PA7/~{RES} (io), 26 PA6/OSC1 (io), 27 PA5/OSC2 (io), 28 PA4/TC1 (io)

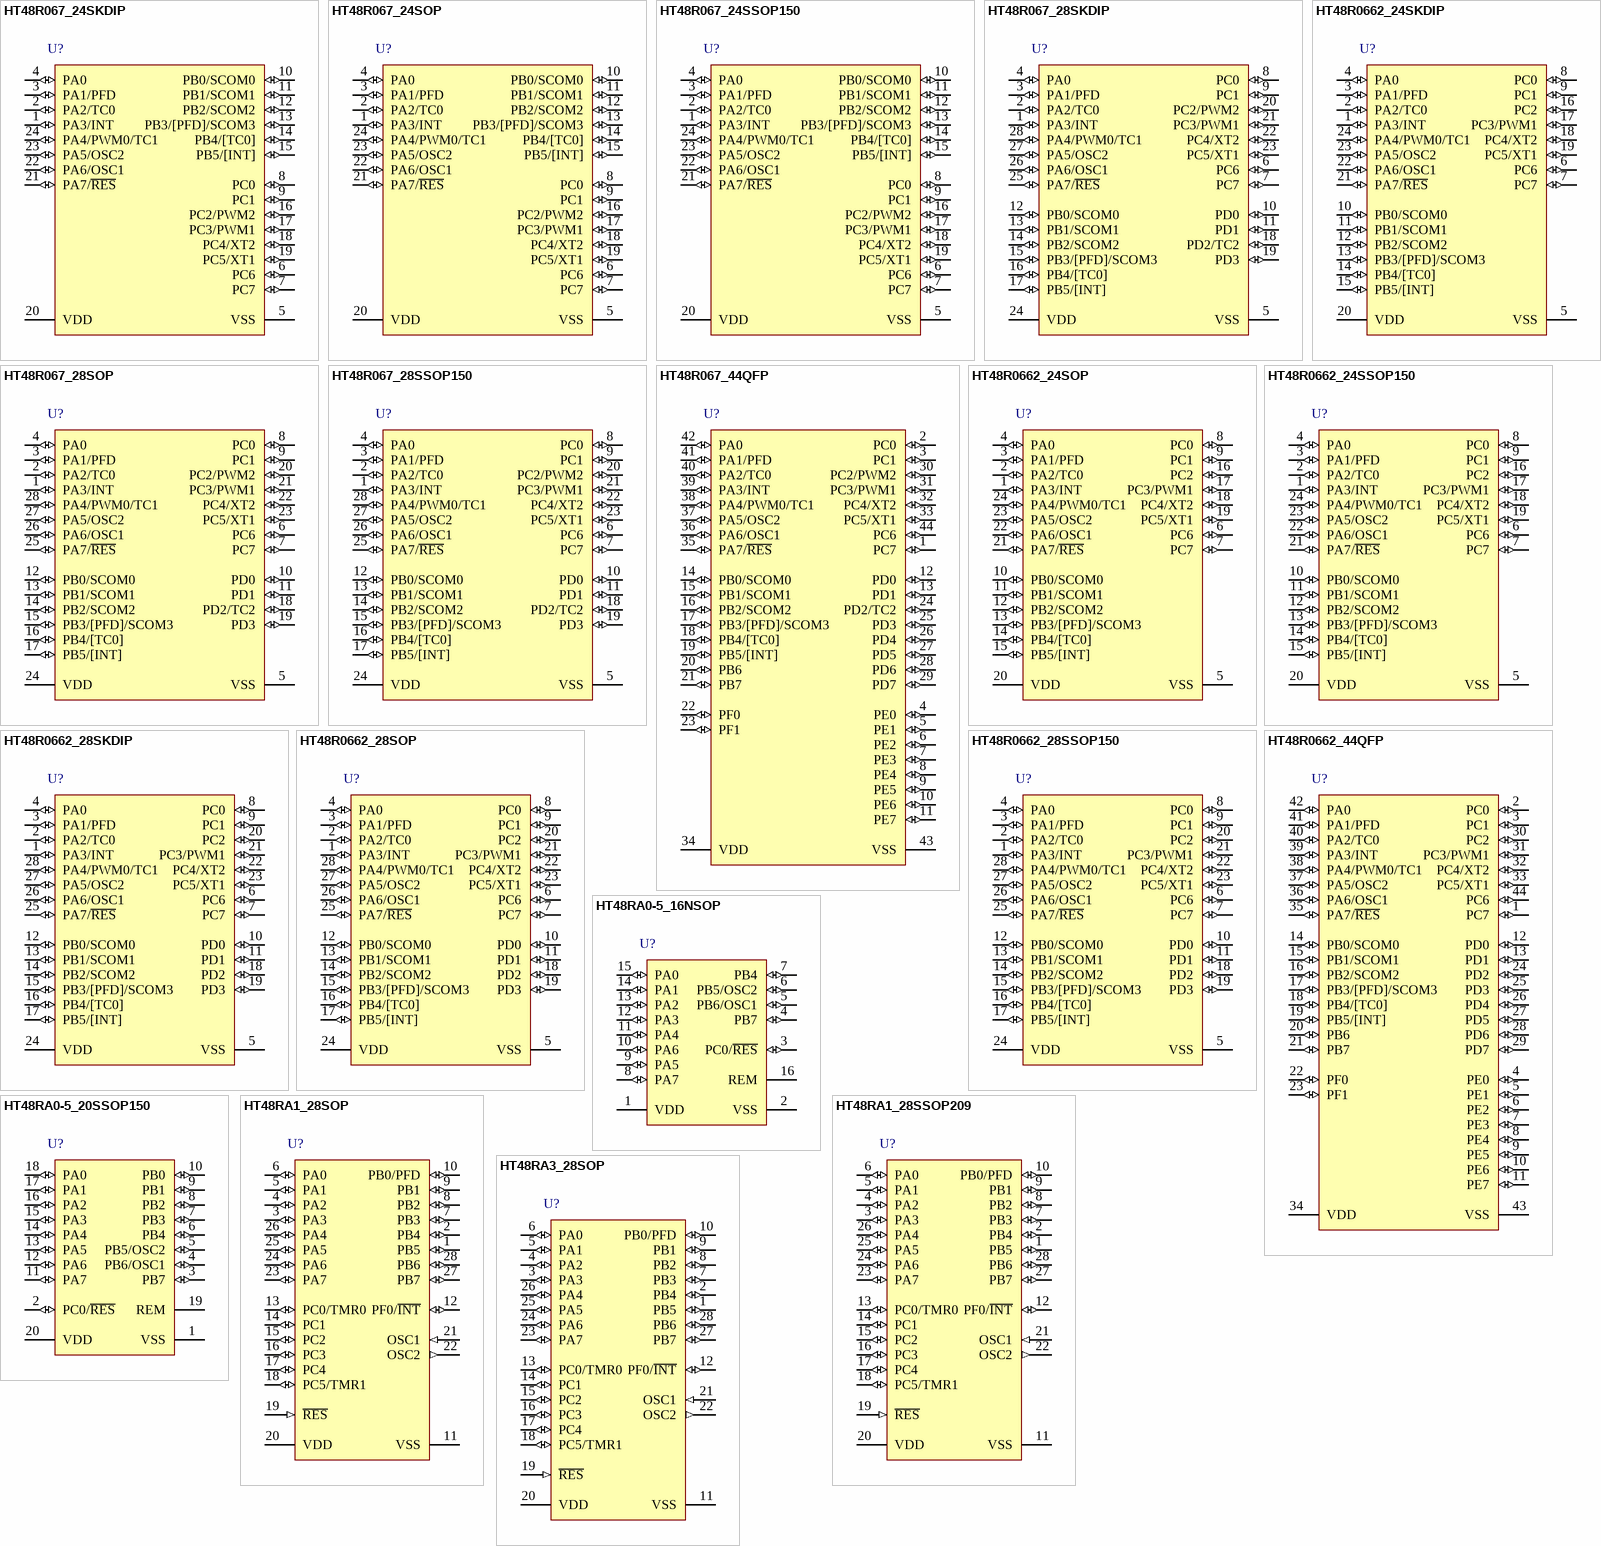
[diagram p10: symbols HT48R067_24SKDIP to HT48RA3_28SOP]

## HT48R067_24SKDIP
designator U?
General Purpose MCU, Enhanced I/O Type MCU, 2.2V-5.5V, 32kHz-12MHz, 8Kx16 Program Memory, 384x8 Data Memory, 42 I/O, 8-bitx2 PWM, 24-pin SKDIP; I/O: 42; DatasheetVersion: rev1.3, Jun-2010; PackageVersion: 25/05/2010; PackageReference: 24SKDIP; PackageDescription: 24-Pin, Skinny Dual In-line Package, 300mil Width, Pitch 2.54 mm, Full Lead (MS-001D); Series: Enhanced I/O Type MCU; Operating Voltage: 2.2V-5.5V; Program Memory: 8Kx16; Data Memory: 384x8; Code_JEDEC: MS-001; ComponentLink1Description: Manufacturer URL; ComponentLink1URL: http://www.holtek.com/; ComponentLink2Description: Datasheet; ComponentLink2URL: http://www.holtek.com.cn/pdf/uc/sim48R06xv130.pdf; ComponentLink3Description: Package Specification; ComponentLink3URL: http://www.holtek.com/english/literature/package.pdf
footprint 24SKDIP (DIP, 24-Leads, Row Spacing 7.62mm, Pitch 2.54mm, Body 31.9x6.6mm)
pins: 1 PA3/INT (io), 2 PA2/TC0 (io), 3 PA1/PFD (io), 4 PA0 (io), 5 VSS (power), 6 PC6 (io), 7 PC7 (io), 8 PC0 (io), 9 PC1 (io), 10 PB0/SCOM0 (io), 11 PB1/SCOM1 (io), 12 PB2/SCOM2 (io), 13 PB3/[PFD]/SCOM3 (io), 14 PB4/[TC0] (io), 15 PB5/[INT] (io), 16 PC2/PWM2 (io), 17 PC3/PWM1 (io), 18 PC4/XT2 (io), 19 PC5/XT1 (io), 20 VDD (power), 21 PA7/~{RES} (io), 22 PA6/OSC1 (io), 23 PA5/OSC2 (io), 24 PA4/PWM0/TC1 (io)

## HT48R067_24SOP
designator U?
General Purpose MCU, Enhanced I/O Type MCU, 2.2V-5.5V, 32kHz-12MHz, 8Kx16 Program Memory, 384x8 Data Memory, 42 I/O, 8-bitx3 PWM, 24-pin SOP; I/O: 42; DatasheetVersion: rev1.3, Jun-2010; PackageVersion: 25/05/2010; PackageReference: 24SOP; PackageDescription: 24-Pin Small Outline Package, 300mil Wide, 1.27 mm Pitch; Series: Enhanced I/O Type MCU; Operating Voltage: 2.2V-5.5V; Program Memory: 8Kx16; Data Memory: 384x8; Code_JEDEC: MS-013; ComponentLink1Description: Manufacturer URL; ComponentLink1URL: http://www.holtek.com/; ComponentLink2Description: Datasheet; ComponentLink2URL: http://www.holtek.com.cn/pdf/uc/sim48R06xv130.pdf; ComponentLink3Description: Package Specification; ComponentLink3URL: http://www.holtek.com/english/literature/package.pdf
footprint 24SOP_N (SOIC, 24-Leads, Body 15.4x7.1mm, Pitch 1.27mm, IPC Medium Density)
footprint 24SOP_L (SOIC, 24-Leads, Body 15.4x7.1mm, Pitch 1.27mm, IPC High Density)
footprint 24SOP_M (SOIC, 24-Leads, Body 15.4x7.1mm, Pitch 1.27mm, IPC Low Density)
pins: 1 PA3/INT (io), 2 PA2/TC0 (io), 3 PA1/PFD (io), 4 PA0 (io), 5 VSS (power), 6 PC6 (io), 7 PC7 (io), 8 PC0 (io), 9 PC1 (io), 10 PB0/SCOM0 (io), 11 PB1/SCOM1 (io), 12 PB2/SCOM2 (io), 13 PB3/[PFD]/SCOM3 (io), 14 PB4/[TC0] (io), 15 PB5/[INT] (io), 16 PC2/PWM2 (io), 17 PC3/PWM1 (io), 18 PC4/XT2 (io), 19 PC5/XT1 (io), 20 VDD (power), 21 PA7/~{RES} (io), 22 PA6/OSC1 (io), 23 PA5/OSC2 (io), 24 PA4/PWM0/TC1 (io)

## HT48R067_24SSOP150
designator U?
General Purpose MCU, Enhanced I/O Type MCU, 2.2V-5.5V, 32kHz-12MHz, 8Kx16 Program Memory, 384x8 Data Memory, 42 I/O, 8-bitx3 PWM, 24-pin SSOP; I/O: 42; DatasheetVersion: rev1.3, Jun-2010; PackageVersion: 25/05/2010; PackageReference: 24SSOP150; PackageDescription: 24-Pin Shrink Small Outline Package, 150mil Width, 0.64 mm Pitch; Series: Enhanced I/O Type MCU; Operating Voltage: 2.2V-5.5V; Program Memory: 8Kx16; Data Memory: 384x8; ComponentLink1Description: Manufacturer URL; ComponentLink1URL: http://www.holtek.com/; ComponentLink2Description: Datasheet; ComponentLink2URL: http://www.holtek.com.cn/pdf/uc/sim48R06xv130.pdf; ComponentLink3Description: Package Specification; ComponentLink3URL: http://www.holtek.com/english/literature/package.pdf
footprint 24SSOP150_N (SOP, 24-Leads, Body 8.7x3.9mm, Pitch 0.635mm, IPC Medium Density)
footprint 24SSOP150_L (SOP, 24-Leads, Body 8.7x3.9mm, Pitch 0.635mm, IPC High Density)
footprint 24SSOP150_M (SOP, 24-Leads, Body 8.7x3.9mm, Pitch 0.635mm, IPC Low Density)
pins: 1 PA3/INT (io), 2 PA2/TC0 (io), 3 PA1/PFD (io), 4 PA0 (io), 5 VSS (power), 6 PC6 (io), 7 PC7 (io), 8 PC0 (io), 9 PC1 (io), 10 PB0/SCOM0 (io), 11 PB1/SCOM1 (io), 12 PB2/SCOM2 (io), 13 PB3/[PFD]/SCOM3 (io), 14 PB4/[TC0] (io), 15 PB5/[INT] (io), 16 PC2/PWM2 (io), 17 PC3/PWM1 (io), 18 PC4/XT2 (io), 19 PC5/XT1 (io), 20 VDD (power), 21 PA7/~{RES} (io), 22 PA6/OSC1 (io), 23 PA5/OSC2 (io), 24 PA4/PWM0/TC1 (io)

## HT48R067_28SKDIP
designator U?
General Purpose MCU, Enhanced I/O Type MCU, 2.2V-5.5V, 32kHz-12MHz, 8Kx16 Program Memory, 384x8 Data Memory, 42 I/O, 8-bitx3 PWM, 28-pin SKDIP; I/O: 42; DatasheetVersion: rev1.3, Jun-2010; PackageVersion: 25/05/2010; PackageReference: 28SKDIP; PackageDescription: 28-Pin, Skinny Dual In-line Package, 300mil Width, Pitch 2.54 mm; Series: Enhanced I/O Type MCU; Operating Voltage: 2.2V-5.5V; Program Memory: 8Kx16; Data Memory: 384x8; ComponentLink1Description: Manufacturer URL; ComponentLink1URL: http://www.holtek.com/; ComponentLink2Description: Datasheet; ComponentLink2URL: http://www.holtek.com.cn/pdf/uc/sim48R06xv130.pdf; ComponentLink3Description: Package Specification; ComponentLink3URL: http://www.holtek.com/english/literature/package.pdf
footprint 28SKDIP (DIP, 28-Leads, Row Spacing 7.62mm, Pitch 2.54mm, Body 35.2x7.3mm)
pins: 1 PA3/INT (io), 2 PA2/TC0 (io), 3 PA1/PFD (io), 4 PA0 (io), 5 VSS (power), 6 PC6 (io), 7 PC7 (io), 8 PC0 (io), 9 PC1 (io), 10 PD0 (io), 11 PD1 (io), 12 PB0/SCOM0 (io), 13 PB1/SCOM1 (io), 14 PB2/SCOM2 (io), 15 PB3/[PFD]/SCOM3 (io), 16 PB4/[TC0] (io), 17 PB5/[INT] (io), 18 PD2/TC2 (io), 19 PD3 (io), 20 PC2/PWM2 (io), 21 PC3/PWM1 (io), 22 PC4/XT2 (io), 23 PC5/XT1 (io), 24 VDD (power), 25 PA7/~{RES} (io), 26 PA6/OSC1 (io), 27 PA5/OSC2 (io), 28 PA4/PWM0/TC1 (io)

## HT48R067_28SOP
designator U?
General Purpose MCU, Enhanced I/O Type MCU, 2.2V-5.5V, 32kHz-12MHz, 8Kx16 Program Memory, 384x8 Data Memory, 42 I/O, 8-bitx3 PWM, 28-pin SOP; I/O: 42; DatasheetVersion: rev1.3, Jun-2010; PackageVersion: 25/05/2010; PackageReference: 28SOP; PackageDescription: 28-Pin Small Outline Package, 300mil Wide, 1.27 mm Pitch; Series: Enhanced I/O Type MCU; Operating Voltage: 2.2V-5.5V; Program Memory: 8Kx16; Data Memory: 384x8; Code_JEDEC: MS-013; ComponentLink1Description: Manufacturer URL; ComponentLink1URL: http://www.holtek.com/; ComponentLink2Description: Datasheet; ComponentLink2URL: http://www.holtek.com.cn/pdf/uc/sim48R06xv130.pdf; ComponentLink3Description: Package Specification; ComponentLink3URL: http://www.holtek.com/english/literature/package.pdf
footprint 28SOP_N (SOIC, 28-Leads, Body 17.9x7.1mm, Pitch 1.27mm, IPC Medium Density)
footprint 28SOP_L (SOIC, 28-Leads, Body 17.9x7.1mm, Pitch 1.27mm, IPC High Density)
footprint 28SOP_M (SOIC, 28-Leads, Body 17.9x7.1mm, Pitch 1.27mm, IPC Low Density)
pins: 1 PA3/INT (io), 2 PA2/TC0 (io), 3 PA1/PFD (io), 4 PA0 (io), 5 VSS (power), 6 PC6 (io), 7 PC7 (io), 8 PC0 (io), 9 PC1 (io), 10 PD0 (io), 11 PD1 (io), 12 PB0/SCOM0 (io), 13 PB1/SCOM1 (io), 14 PB2/SCOM2 (io), 15 PB3/[PFD]/SCOM3 (io), 16 PB4/[TC0] (io), 17 PB5/[INT] (io), 18 PD2/TC2 (io), 19 PD3 (io), 20 PC2/PWM2 (io), 21 PC3/PWM1 (io), 22 PC4/XT2 (io), 23 PC5/XT1 (io), 24 VDD (power), 25 PA7/~{RES} (io), 26 PA6/OSC1 (io), 27 PA5/OSC2 (io), 28 PA4/PWM0/TC1 (io)